# Altium footprint library AUTO_D_SCHEMATICS.PcbLib: 14 footprints
Each footprint in its own frame and in the unit in brackets; x right, y up, seen from the top. Pads: shape width x height; smd on the part's side, far side on the other; paste and mask are expansions set on the pad; w line width, h text height; cw(c..) or ccw(c..) is an arc to the next point about the centre after c.
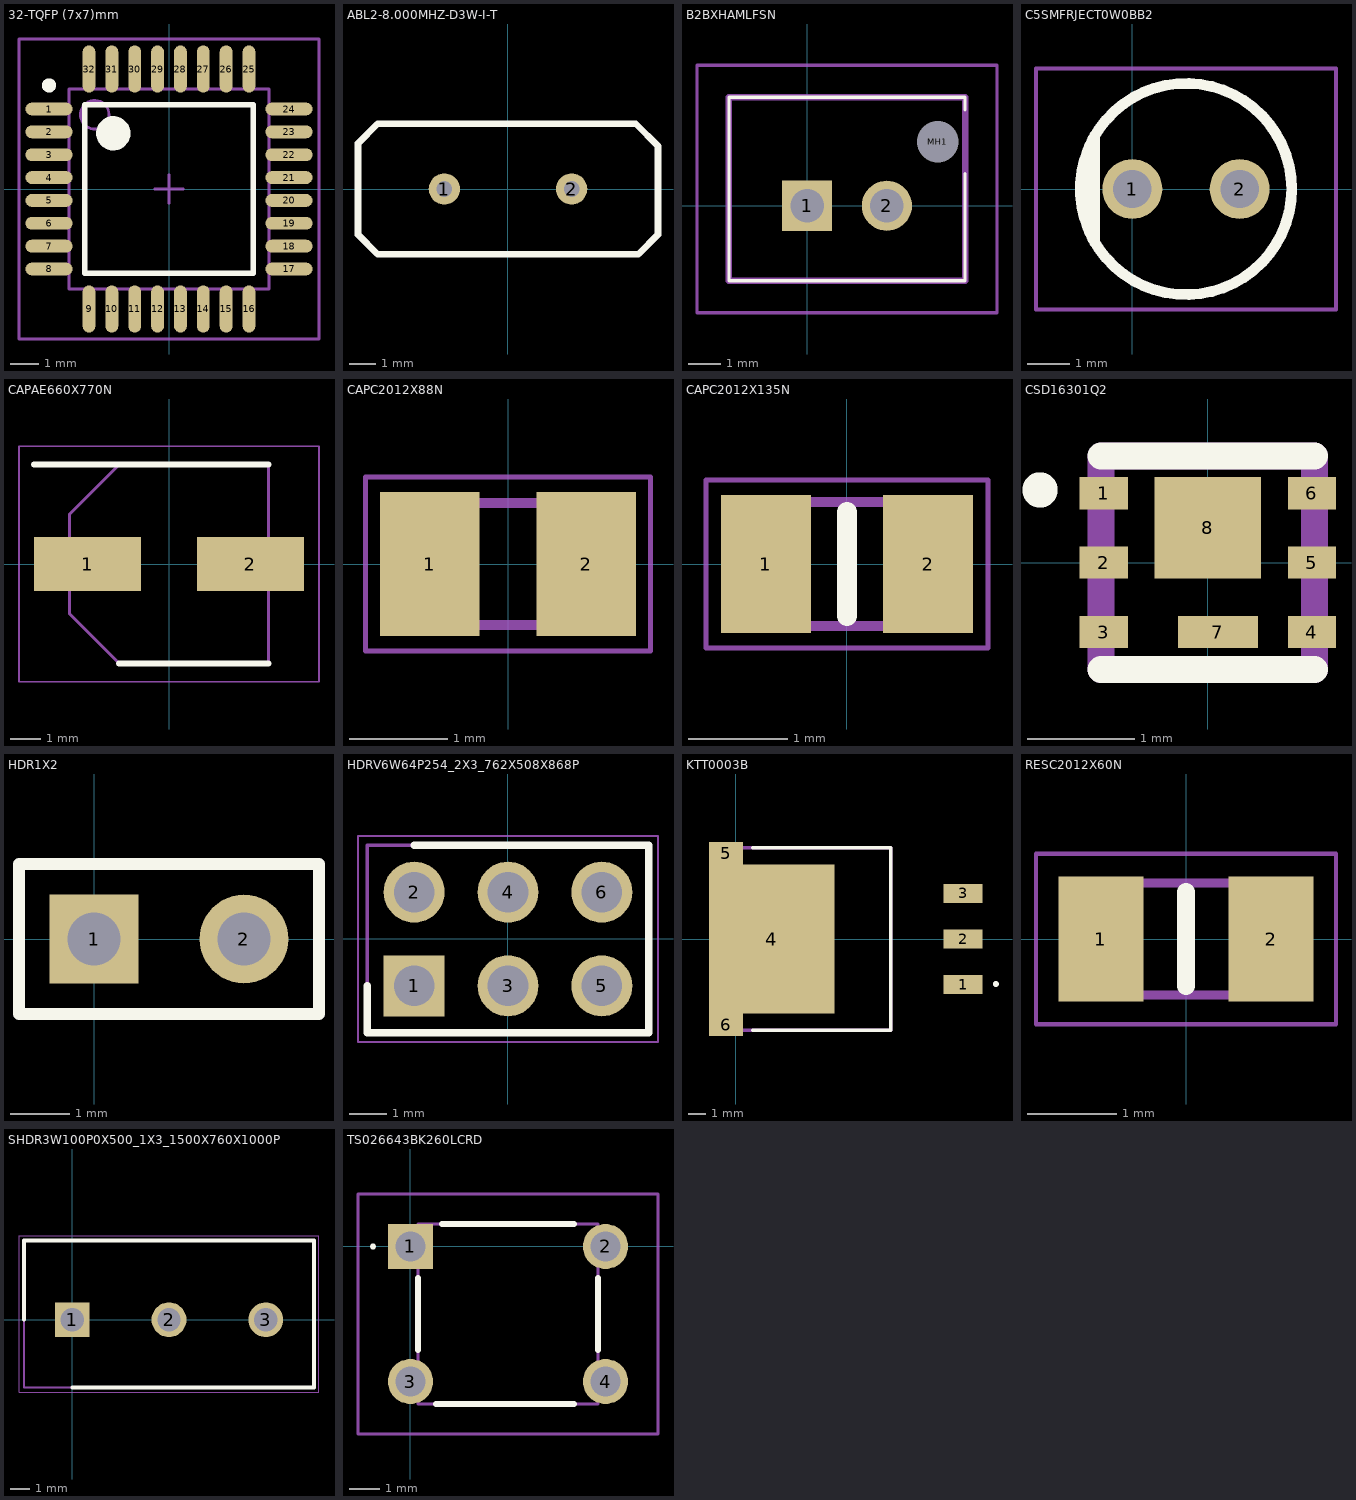
[diagram p0: the footprints below, top view; thin cyan lines are the x and y axes]

## 32-TQFP (7x7)mm [mm] "Thin QFP, 32-Leads, Body 7x7mm, Pitch 0.8mm, IPC Medium Density"
height 1.2
pads (32):
  oval 1.65x0.45 smd: 1(-4.2,2.8) 2(-4.2,2) 3(-4.2,1.2) 4(-4.2,0.4) 5(-4.2,-0.4) 6(-4.2,-1.2) 7(-4.2,-2) 8(-4.2,-2.8) 17(4.2,-2.8) 18(4.2,-2) 19(4.2,-1.2) 20(4.2,-0.4) 21(4.2,0.4) 22(4.2,1.2) 23(4.2,2) 24(4.2,2.8)
  oval 0.45x1.65 smd: 9(-2.8,-4.2) 10(-2,-4.2) 11(-1.2,-4.2) 12(-0.4,-4.2) 13(0.4,-4.2) 14(1.2,-4.2) 15(2,-4.2) 16(2.8,-4.2) 25(2.8,4.2) 26(2,4.2) 27(1.2,4.2) 28(0.4,4.2) 29(-0.4,4.2) 30(-1.2,4.2) 31(-2,4.2) 32(-2.8,4.2)
Top Overlay:
  circle w0.6: c-1.95,1.95 r0.3
  circle w0.25: c-4.2,3.625 r0.125
  lines w0.2: -2.95,-2.95 2.95,-2.95 2.95,2.95 -2.95,2.95 -2.95,-2.95
Mechanical 13:
  circle w0.1: c-2.6,2.6 r0.5
  lines w0.1: -3.5,-3.5 3.5,-3.5 3.5,3.5 -3.5,3.5 -3.5,-3.5
Mechanical 15:
  lines w0.1: -0.5,0 0.5,0 ; 0,-0.5 0,0.5 ; -5.25,-5.25 5.25,-5.25 5.25,5.25 -5.25,5.25 -5.25,-5.25
3D body: height 1.2, standoff 0, extent -3.5,-3.5 3.5,3.5

## ABL2-8.000MHZ-D3W-I-T [mm]
pads (2):
  round 1.2 hole 0.6: 1(-2.44,0) 2(2.44,0)
Top Overlay:
  lines w0.254: -5.75,-1.75 -5,-2.5 5,-2.5 5.75,-1.75 5.75,1.65 4.9,2.5 -5,2.5 -5.75,1.75 -5.75,-1.75

## B2BXHAMLFSN [mm]
pads (3):
  rect 1.575x1.575 hole 1.05: 1(0,0)
  round 1.575 hole 1.05: 2(2.5,0)
  round 0.65 hole 1.3 unplated: MH1(4.1,2)
Top Overlay:
  lines w0.1: -2.45,-2.35 4.95,-2.35 ; -2.45,-2.35 4.95,-2.35 ; -2.45,-2.35 -2.45,3.4 ; -2.45,-2.35 -2.45,3.4 ; -2.45,3.4 4.95,3.4 ; -2.45,3.4 4.95,3.4 ; 4.95,-2.35 4.95,1 4.95,-2.35 ; 4.95,3.4 4.95,3 4.95,3.4
Mechanical 13:
  lines w0.2: -2.45,-2.35 -2.45,3.4 4.95,3.4 4.95,-2.35 -2.45,-2.35
Mechanical 15:
  lines w0.1: -3.45,-3.35 -3.45,4.4 5.95,4.4 5.95,-3.35 -3.45,-3.35
3D body "User Library-JST B2B-XH-A.step": height 7.01, standoff -3.39, extent -2.43,-2.341 4.97,3.409

## C5SMFRJECT0W0BB2 [mm]
pads (2):
  round 1.416 hole 0.91: 1(0,0) 2(2.54,0)
Top Overlay:
  circle w0.254: c1.27,0 r2.5
  lines w0.254: -1.016,-1.016 -1.016,1.016 ; -0.889,-1.27 -0.889,1.27
Mechanical 15:
  lines w0.1: -2.28,-2.85 -2.28,2.85 4.82,2.85 4.82,-2.85 -2.28,-2.85
3D body "LED 3mm Red 21mm Leads.step": height 23.39, standoff -2.99, extent -0.28,-1.943 3.215,1.905

## CAPAE660X770N [mm]
pads (2):
  rect 3.55x1.8 smd: 1(-2.7,0) 2(2.7,0)
Top Overlay:
  lines w0.2: -4.475,3.3 3.3,3.3 ; -1.65,-3.3 3.3,-3.3
Mechanical 13:
  lines w0.1: -3.3,-1.65 -3.3,1.65 -1.65,3.3 3.3,3.3 3.3,-3.3 -1.65,-3.3 -3.3,-1.65
Mechanical 15:
  lines w0.05: -4.975,-3.9 4.975,-3.9 4.975,3.9 -4.975,3.9 -4.975,-3.9
3D body "865080345012.stp": height 7.7, standoff 0, extent -3.75,-3.4 3.75,3.4

## CAPC2012X88N [mm]
pads (2):
  rect 1.02x1.47 smd: 1(-0.8,0) 2(0.8,0)
Mechanical 13:
  lines w0.1: -1,-0.625 1,-0.625 1,0.625 -1,0.625 -1,-0.625
Mechanical 15:
  lines w0.05: -1.46,-0.89 1.46,-0.89 1.46,0.89 -1.46,0.89 -1.46,-0.89
3D body "C0805C104K9RACAUTO.stp": height 0.88, standoff 0, extent -1,-0.625 1,0.625

## CAPC2012X135N [mm]
pads (2):
  rect 0.91x1.39 smd: 1(-0.82,0) 2(0.82,0)
Top Overlay:
  lines w0.2: 0,-0.525 0,0.525
Mechanical 13:
  lines w0.1: -1,-0.625 1,-0.625 1,0.625 -1,0.625 -1,-0.625
Mechanical 15:
  lines w0.05: -1.425,-0.85 1.425,-0.85 1.425,0.85 -1.425,0.85 -1.425,-0.85
3D body "GRM21BR61C106KE15K.stp": height 1.35, standoff 0, extent -1,-0.625 1,0.625

## CSD16301Q2 [mm]
pads (8):
  rect 0.45x0.3 smd: 1(-0.975,0.65) 2(-0.975,0) 3(-0.975,-0.65) 4(0.975,-0.65) 5(0.975,0) 6(0.975,0.65)
  rect 0.75x0.3 smd: 7(0.095,-0.65)
  rect 1x0.95 smd: 8(0,0.325)
Top Overlay:
  circle w0.254: c-1.571,0.681 r0.038
  lines w0.254: -1,-1 1,-1 ; -1,1 1,1
Mechanical 13:
  lines w0.254: -1,-1 1,-1 1,1 -1,1 -1,-1
3D body "CSD13202Q2.stp": height 0.8, standoff 0, extent -1,-1 1,1

## HDR1X2 [mm] "Connector; Header; 2 Position"
pads (2):
  rect 1.5x1.5 hole 0.9: 1(0,0)
  round 1.5 hole 0.9: 2(2.54,0)
Top Overlay:
  lines w0.2: -1.27,-1.27 3.81,-1.27 3.81,1.27 -1.27,1.27 -1.27,-1.27

## HDRV6W64P254_2X3_762X508X868P [mm]
pads (6):
  rect 1.65x1.65 hole 1.1: 1(-2.54,-1.27)
  round 1.65 hole 1.1: 2(-2.54,1.27) 3(0,-1.27) 4(0,1.27) 5(2.54,-1.27) 6(2.54,1.27)
Top Overlay:
  lines w0.2: -3.81,-1.27 -3.81,-2.54 3.81,-2.54 3.81,2.54 -2.54,2.54
Mechanical 13:
  lines w0.1: -3.81,-2.54 3.81,-2.54 3.81,2.54 -3.81,2.54 -3.81,-2.54
Mechanical 15:
  lines w0.05: -4.06,-2.79 4.06,-2.79 4.06,2.79 -4.06,2.79 -4.06,-2.79
3D body "M20-9980346.stp": height 8.68, standoff -3, extent -3.81,-2.54 3.81,2.54

## KTT0003B [mm]
pads (6):
  rect 2.16x1.07 smd: 1(12.67,-2.54) 2(12.67,0) 3(12.67,2.54)
  rect 7x8.33 smd: 4(2,0)
  rect 1.91x1.235 smd: 5(-0.545,4.782) 6(-0.545,-4.782)
Top Overlay:
  circle w0.2: c14.497,-2.51 r0.065
  lines w0.2: 0.94,-5.08 8.64,-5.08 8.64,5.08 0.94,5.08
Mechanical 13:
  lines w0.2: 0,-5.08 8.64,-5.08 8.64,5.08 0,5.08 0,-5.08
3D body "LM7805SX_NOPB.stp": height 4.54, standoff 0, extent -1.517,-5.08 13.722,5.08

## RESC2012X60N [mm]
pads (2):
  rect 0.95x1.4 smd: 1(-0.95,0) 2(0.95,0)
Top Overlay:
  lines w0.2: 0,-0.525 0,0.525
Mechanical 13:
  lines w0.1: -1,-0.625 -1,0.625 1,0.625 1,-0.625 -1,-0.625
Mechanical 15:
  lines w0.05: -1.675,-0.95 -1.675,0.95 1.675,0.95 1.675,-0.95 -1.675,-0.95
3D body "RT0805FRE101KL.stp": height 0.6, standoff 0, extent -1,-0.625 1,0.625

## SHDR3W100P0X500_1X3_1500X760X1000P [mm]
pads (3):
  rect 1.8x1.8 hole 1.2: 1(0,0)
  round 1.8 hole 1.2: 2(5,0) 3(10,0)
Top Overlay:
  lines w0.2: -2.5,0 -2.5,4.1 12.5,4.1 12.5,-3.5 0,-3.5
Mechanical 13:
  lines w0.1: -2.5,-3.5 -2.5,4.1 12.5,4.1 12.5,-3.5 -2.5,-3.5
Mechanical 15:
  lines w0.05: -2.75,-3.75 -2.75,4.35 12.75,4.35 12.75,-3.75 -2.75,-3.75
3D body "CUI_DEVICES_TB002-500-03BE.step": height 10, standoff -4.35, extent -3,-3.525 12.5,4.075

## TS026643BK260LCRD [mm]
pads (4):
  rect 1.5x1.5 hole 1: 1(0,0)
  round 1.5 hole 1: 2(6.5,0) 3(0,-4.5) 4(6.5,-4.5)
Top Overlay:
  lines w0.1: -1.3,0 ccw(c-1.25,0) -1.2,0 ccw(c-1.25,0) -1.3,0
  lines w0.2: 0.25,-3.45 0.25,-1.05 ; 0.85,-5.25 5.45,-5.25 ; 1.05,0.75 5.45,0.75 ; 6.25,-3.45 6.25,-1.05
Mechanical 13:
  lines w0.1: 0.25,-5.25 0.25,0.75 6.25,0.75 6.25,-5.25 0.25,-5.25
Mechanical 15:
  lines w0.1: -1.75,-6.25 -1.75,1.75 8.25,1.75 8.25,-6.25 -1.75,-6.25
3D body "Push Tactile Button SPST-NO 6x6mm L=5mm Omron B3F-1020.stp": height 4, standoff -3.5, extent -0.601,-5.25 7.1,0.75